# EAGLE library part SPI_SCREEN (library etchasketch)
Check availability <https://pricing.snapeda.com/parts/1770/Adafruit%20Industries/view-part?ref=eda>
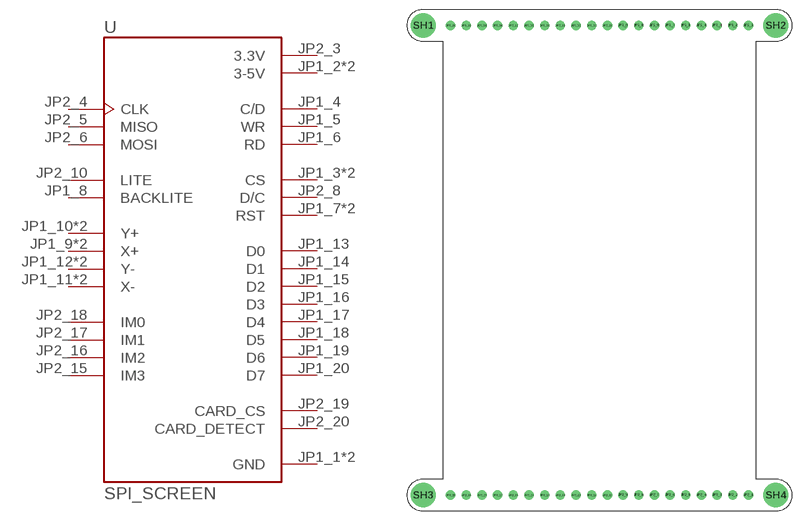
[diagram p1: symbol with the pads of MODULE_1770; footprint MODULE_1770]

Designator prefix U

## SPI_SCREEN (AVAILABILITY: In Stock; CHECK_PRICES: https://www.snapeda.com/parts/1770/Adafruit+Industries/view-part/?ref=eda; DESCRIPTION: 2.8 TFT LCD with Touchscreen Breakout Board w/MicroSD Socket | Adafruit Industries 1770; MF: Adafruit Industries; MP: 1770; PACKAGE: None; PRICE: None; SNAPEDA_LINK: https://www.snapeda.com/parts/1770/Adafruit+Industries/view-part/?ref=snap)  [MODULE_1770]
JP1_1  GND  pwr
JP1_2  3-5V  pwr
JP1_3  CS  pas
JP1_4  C/D  pas
JP1_5  WR  pas
JP1_6  RD  pas
JP1_7  RST  pas
JP1_8  BACKLITE  in
JP1_9  X+  pas
JP1_10  Y+  pas
JP1_11  X-  pas
JP1_12  Y-  pas
JP1_13  D0  pas
JP1_14  D1  pas
JP1_15  D2  pas
JP1_16  D3  pas
JP1_17  D4  pas
JP1_18  D5  pas
JP1_19  D6  pas
JP1_20  D7  pas
JP2_1  GND  pwr
JP2_2  3-5V  pwr
JP2_3  3.3V  pwr
JP2_4  CLK  in
JP2_5  MISO  out
JP2_6  MOSI  in
JP2_7  CS  pas
JP2_8  D/C  pas
JP2_9  RST  pas
JP2_10  LITE  in
JP2_11  Y+  pas
JP2_12  X+  pas
JP2_13  Y-  pas
JP2_14  X-  pas
JP2_15  IM3  pas
JP2_16  IM2  pas
JP2_17  IM1  pas
JP2_18  IM0  pas
JP2_19  CARD_CS  pas
JP2_20  CARD_DETECT  pas

## Footprint MODULE_1770 (pad centres in mm)
drill 1: JP1_1 24.13,38.1; JP1_2 21.59,38.1; JP1_3 19.05,38.1; JP1_4 16.51,38.1; JP1_5 13.97,38.1; JP1_6 8.89,38.1; JP1_7 11.43,38.1; JP1_8 6.35,38.1; JP1_9 3.81,38.1; JP1_10 1.27,38.1; JP1_11 -3.81,38.1; JP1_12 -1.27,38.1; JP1_13 -6.35,38.1; JP1_14 -8.89,38.1; JP1_15 -11.43,38.1; JP1_16 -16.51,38.1; JP1_17 -13.97,38.1; JP1_18 -19.05,38.1; JP1_19 -21.59,38.1; JP1_20 -24.13,38.1; JP2_1 24.13,-38.1; JP2_2 21.59,-38.1; JP2_3 19.05,-38.1; JP2_4 16.51,-38.1; JP2_5 13.97,-38.1; JP2_6 11.43,-38.1; JP2_7 8.89,-38.1; JP2_8 6.35,-38.1; JP2_9 3.81,-38.1; JP2_10 1.27,-38.1; JP2_11 -1.27,-38.1; JP2_12 -3.81,-38.1; JP2_13 -6.35,-38.1; JP2_14 -8.89,-38.1; JP2_15 -11.43,-38.1; JP2_16 -13.97,-38.1; JP2_17 -16.51,-38.1; JP2_18 -19.05,-38.1; JP2_19 -21.59,-38.1; JP2_20 -24.13,-38.1
drill 3: SH1 -28.575,38.1; SH2 28.575,38.1; SH3 -28.575,-38.1; SH4 28.575,-38.1